# Altium schematic symbol library MotorControl.SchLib: 6 symbols
Pins are listed as number, name and electrical type; pins without a type are passive.

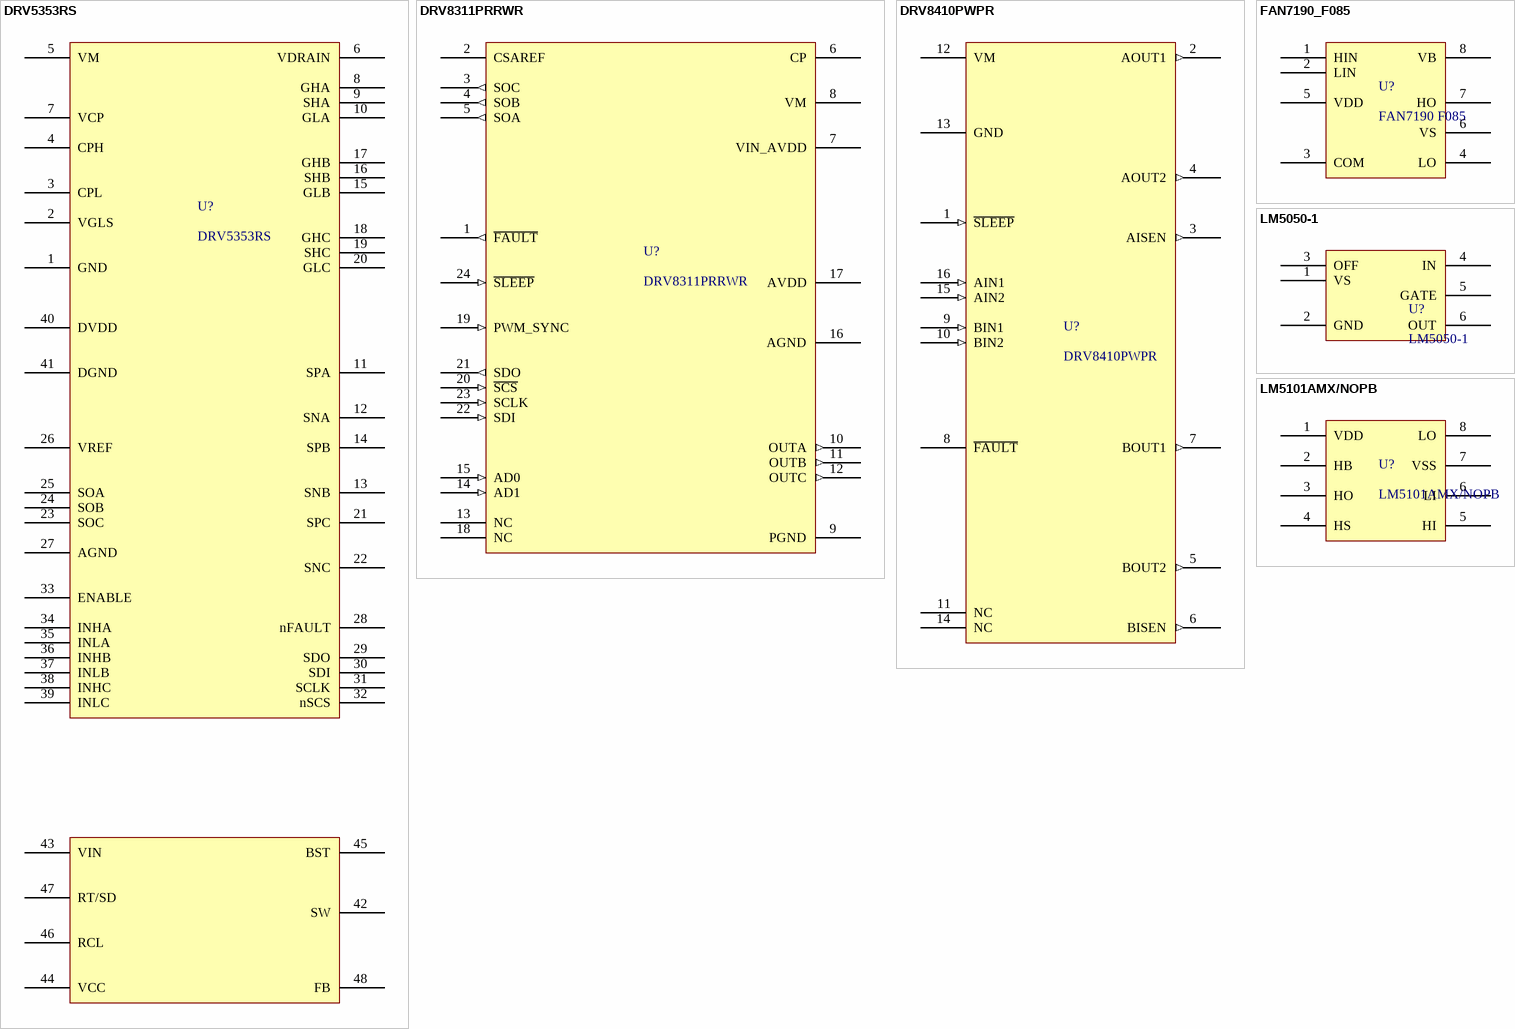
[diagram p0: symbols DRV5353RS to LM5101AMX/NOPB]

## DRV5353RS
designator U?
100-V Three-Phase Smart Gate Driver With Buck Regulator and Three Current Shunt Amplifiers
footprint DRV8353RS - QFN50P700X700X100_HS-49M (QFN, 48-Leads, Body 7.00x7.00mm, Pitch 0.50mm, Thermal Pad 5.00x5.00mm, IPC Low Density)
pins: 1 GND, 2 VGLS, 3 CPL, 4 CPH, 5 VM, 6 VDRAIN, 7 VCP, 8 GHA, 9 SHA, 10 GLA, 11 SPA, 12 SNA, 13 SNB, 14 SPB, 15 GLB, 16 SHB, 17 GHB, 18 GHC, 19 SHC, 20 GLC, 21 SPC, 22 SNC, 23 SOC, 24 SOB, 25 SOA, 26 VREF, 27 AGND, 28 nFAULT, 29 SDO, 30 SDI, 31 SCLK, 32 nSCS, 33 ENABLE, 34 INHA, 35 INLA, 36 INHB, 37 INLB, 38 INHC, 39 INLC, 40 DVDD, 41 DGND, 42 SW, 43 VIN, 44 VCC, 45 BST, 46 RCL, 47 RT/SD, 48 FB

## DRV8311PRRWR
designator U?
24-V abs max, 3 to 20-V, three-phase brushless-DC motor driver with integrated FETs; Supplier 1: Mouser; Supplier Part Number 1: 595-DRV8311PRRWR
footprint DRV8311P - QFN40P300X300X80_HS-25M (QFN, 24-Leads, Body 3.00x3.00mm, Pitch 0.40mm, Thermal Pad 1.90x1.90mm, IPC Low Density)
pins: 1 ~{FAULT} (out), 2 CSAREF, 3 SOC (out), 4 SOB (out), 5 SOA (out), 6 CP, 7 VIN_AVDD, 8 VM, 9 PGND, 10 OUTA (out), 11 OUTB (out), 12 OUTC (out), 13 NC, 14 AD1 (in), 15 AD0 (in), 16 AGND (power), 17 AVDD (power), 18 NC, 19 PWM_SYNC (in), 20 ~{SCS} (in), 21 SDO (out), 22 SDI (in), 23 SCLK (in), 24 ~{SLEEP} (in)

## DRV8410PWPR
designator U?
Dual H-Bridge Motor Driver with Current Regulation
footprint DRV8410 - TSOP65P640X120_HS-17M (TSOP, 16-Leads, Body 5.00x4.40mm, Pitch 0.65mm, Thermal Pad 3.30x2.50mm, IPC Low Density)
pins: 1 ~{SLEEP} (in), 2 AOUT1 (out), 3 AISEN (out), 4 AOUT2 (out), 5 BOUT2 (out), 6 BISEN (out), 7 BOUT1 (out), 8 ~{FAULT}, 9 BIN1 (in), 10 BIN2 (in), 11 NC, 12 VM, 13 GND, 14 NC, 15 AIN2 (in), 16 AIN1 (in)

## FAN7190_F085
designator U?, comment FAN7190 F085
Half-Bridge 4.5A FET Gate Driver, AEC-Q100; Supplier 1: Digi-Key; Supplier Part Number 1: FAN7190MX_F085FSCT-ND; Supplier 2: Mouser; Supplier Part Number 2: 512-FAN7190MX_F085; Supplier 3: Arrow; Supplier Part Number 3: qO65gxxXIPueYiIEHSVnlqepI86_KTY-ibCTLVamAQA
footprint FETDriver - SOIC127P600X175-8M (SOIC, 8-Leads, Body 4.90x3.90mm, Pitch 1.27mm, IPC Low Density)
pins: 1 HIN, 2 LIN, 3 COM, 4 LO, 5 VDD, 6 VS, 7 HO, 8 VB

## LM5050-1
designator U?
High Side OR-ing FET Controller
footprint LM5050-1 - SOT95P280X110-6N (SOT23, 6-Leads, Body 3.0x3.0mm (max), Pitch 0.95mm, IPC Medium Density)
simulation model LM5050-1
pins: 1 VS, 2 GND, 3 OFF, 4 IN, 5 GATE, 6 OUT

## LM5101AMX/NOPB
designator U?
Half-Bridge FET Gate Driver; Supplier 1: Mouser; Supplier Part Number 1: 926-LM5101AMX/NOPB; Supplier 2: Digi-Key; Supplier Part Number 2: LM5101AMX/NOPBCT-ND; Supplier 3: Arrow; Supplier Part Number 3: wYv-yA-bLcnRfpaLXApoYgDsQ_r4y6njwb2odcY32s0
footprint LM5101AMX/NOPB (SOIC, 8-Leads, Body 5.0x4.0mm (max), Pitch 1.27mm, IPC Medium Density)
pins: 1 VDD, 2 HB, 3 HO, 4 HS, 5 HI, 6 LI, 7 VSS, 8 LO